# EAGLE library part SN74AVC2T45 (library untitled)
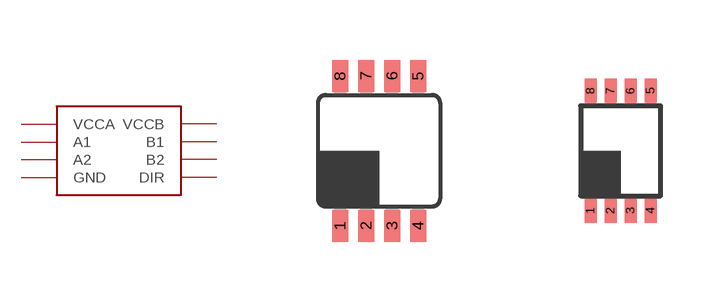
[diagram p52: symbol with the pads of DCT_R_PDSO_G8; footprints DCT_R_PDSO_G8, DCU_R_PDSO_G8]

Designator prefix IC

## SN74AVC2T45DCT  [DCT_R_PDSO_G8]
1  VCCA
2  A1
3  A2
4  GND
5  DIR
6  B2
7  B1
8  VCCB

## SN74AVC2T45DCU  [DCU_R_PDSO_G8]
Pads as for DCT_R_PDSO_G8

## Footprint DCT_R_PDSO_G8 (pad centres in mm)
smd 0.4 x 0.8: 1 -0.975,-1.875; 2 -0.325,-1.875; 3 0.325,-1.875; 4 0.975,-1.875; 5 0.975,1.875; 6 0.325,1.875; 7 -0.325,1.875; 8 -0.975,1.875

## Footprint DCU_R_PDSO_G8 (pad centres in mm)
smd 0.3 x 0.6: 1 -0.75,-1.5; 2 -0.25,-1.5; 3 0.25,-1.5; 4 0.75,-1.5; 5 0.75,1.5; 6 0.25,1.5; 7 -0.25,1.5; 8 -0.75,1.5